# EAGLE library part PSTA-10 (library con-phoenix-350)
PSTA 1,5/XX-3,5 3.5 MM Terminal Block
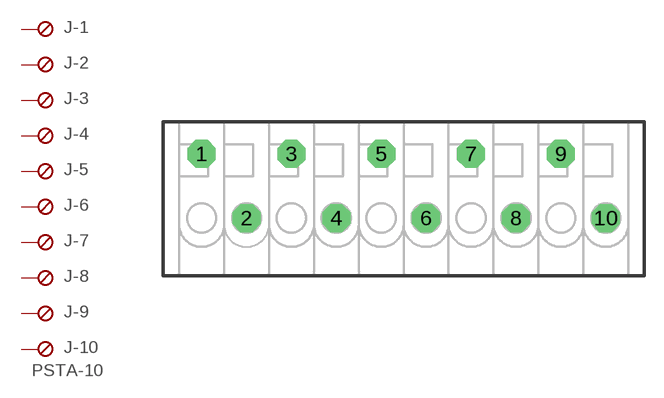
[diagram p5: symbol with the pads of PSTA-10; footprint PSTA-10]

Designator prefix J; gates -1=SKB -2=SKB -3=SKB -4=SKB -5=SKB -6=SKB -7=SKB -8=SKB -9=SKB -10=SKBU+V

## PSTA-10  [PSTA-10]
1  -1:S  pas
2  -2:S  pas
3  -3:S  pas
4  -4:S  pas
5  -5:S  pas
6  -6:S  pas
7  -7:S  pas
8  -8:S  pas
9  -9:S  pas
10  -10:S  pas

## Footprint PSTA-10 (pad centres in mm)
PTSA 1,5/10-3,5-Z 3.5mm
drill 1.016 pad 2.184 octagon: 1 -15.75,5; 2 -12.25,0; 3 -8.75,5; 4 -5.25,0; 5 -1.75,5; 6 1.75,0; 7 5.25,5; 8 8.75,0; 9 12.25,5; 10 15.75,0